# Altium schematic symbol library CN HDR 4POS.Schlib: 1 symbol
Pins are listed as number, name and electrical type; pins without a type are passive.

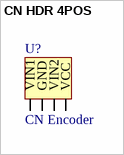
[diagram p0: symbol CN HDR 4POS]

## CN HDR 4POS
designator U?, comment CN Encoder
CN HDR R/A 4POS 1.5MM
pins: GND (power), VCC (power), VIN1 (in), VIN2 (in)